# Altium footprint library motionDetectorPCBLib.PcbLib: 10 footprints
Each footprint in its own frame and in the unit in brackets; x right, y up, seen from the top. Pads: shape width x height; smd on the part's side, far side on the other; paste and mask are expansions set on the pad; w line width, h text height; cw(c..) or ccw(c..) is an arc to the next point about the centre after c.
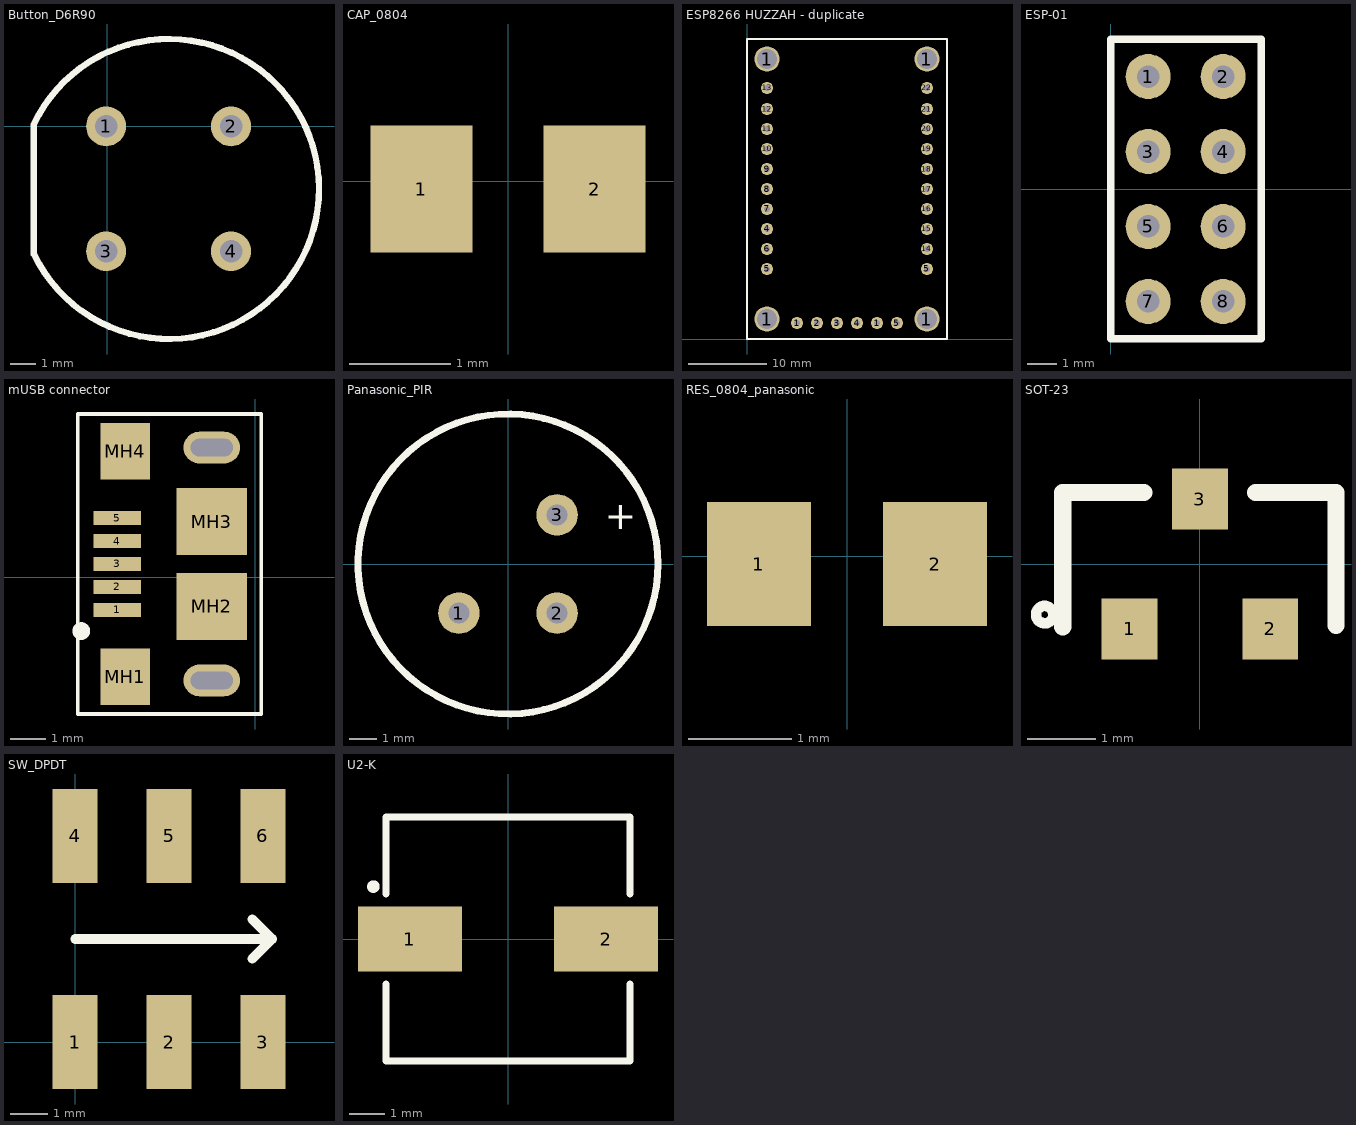
[diagram p0: the footprints below, top view; thin cyan lines are the x and y axes]

## Button_D6R90 [mm]
height 12.9
pads (4):
  round 1.6 hole 0.9: 1(-0.05,0) 2(4.95,0) 3(-0.05,-5) 4(4.95,-5)
Top Overlay:
  lines w0.254: -2.95,-5.125 -2.95,-2.5 -2.95,0.075 cw(c2.468,-2.509) -2.93,-5.133

## CAP_0804 [mm]
height 1.25
pads (2):
  rect 1.006x1.25 smd: 1(-0.853,-0.075) 2(0.853,-0.075)

## ESP8266 HUZZAH - duplicate [mil]
pads (30):
  round 125.98 hole 98.43: 1(100,100) 1(100,1400) 1(900,100) 1(900,1400)
  round 60 hole 30: 1(250,80) 1(650,80) 2(350,80) 3(450,80) 4(100,550) 4(550,80) 5(100,350) 5(750,80) 5(900,350) 6(100,450) 7(100,650) 8(100,750) 9(100,850) 10(100,950) 11(100,1050) 12(100,1150) 13(100,1255) 14(900,450) 15(900,550) 16(900,650) 17(900,750) 18(900,850) 19(900,950) 20(900,1050) 21(900,1150) 22(900,1255)
Top Overlay:
  lines w10: 0,0 0,1500 1000,1500 1000,0 0,0

## ESP-01 [mil]
pads (8):
  round 60 hole 30: 1(50,150) 2(150,150) 3(50,50) 4(150,50) 5(50,-50) 6(150,-50) 7(50,-150) 8(150,-150)
Top Overlay:
  lines w10: 0,-200 0,200 201,200 201,-200 0,-200

## mUSB connector [mm] "Connector; USB Mini-B, Sinking Type, SM; 5 Position; Right Angle"
height 0.35
pads (11):
  rect 1.35x0.4 smd: 1(-3.9,-0.925) 2(-3.9,-0.275) 3(-3.9,0.375) 4(-3.9,1.025) 5(-3.9,1.676)
  rect 1.4x1.6 smd: MH1(-3.675,-2.825) MH4(-3.675,3.575)
  rect 2x1.9 smd: MH2(-1.225,-0.825) MH3(-1.225,1.575)
  oval 1.6x0.9 hole 0.5 slot 1.2 at 0 deg: ""(-1.225,-2.925) ""(-1.225,3.675)
Top Overlay:
  circle w0.25: c-4.925,-1.525 r0.125
  lines w0.1: -5.025,-3.875 0.175,-3.875 0.175,4.625 -5.025,4.625 -5.025,-3.875

## Panasonic_PIR [mil]
pads (3):
  round 60 hole 30: 1(-70.87,-70.87) 2(70.87,-70.87) 3(70.87,70.87)
Top Overlay:
  circle w10: c0,0 r216.54
  text "+" at 140,50 h40

## RES_0804_panasonic [mm]
pads (2):
  rect 1.006x1.2 smd: 1(-0.853,-0.075) 2(0.853,-0.075)

## SOT-23 [mil]
pads (3):
  rect 32x35 smd paste+0: 1(-40.35,-37.2) 2(40.35,-37.2) 3(0,37.2)
Top Overlay:
  circle w6: c-89,-29 r5
  lines w10: -78.74,-36 -78.74,41 -32.24,41 ; 32,41 78,41 78,-35

## SW_DPDT [mm]
height 5.08
pads (6):
  rect 1.2x2.5 smd: 1(0,0) 2(2.5,0) 3(5,0) 4(0,5.5) 5(2.5,5.5) 6(5,5.5)
Top Overlay:
  lines w0.254: 0,2.75 5.25,2.75 ; 4.725,2.225 5.25,2.75 ; 4.725,3.275 5.25,2.75

## U2-K [mil]
pads (2):
  rect 115x72 smd paste+0 mask+0: 1(-108.5,0) 2(108.5,0)
Top Overlay:
  circle w8: c-149,58 r3
  lines w8: -135,-50 -135,-135 135,-135 135,-50 ; -135,50 -135,135 135,135 135,50
Mechanical 13:
  circle w0: c-110,0 r3